# Altium schematic symbol library SMA HF Connectors.SchLib: 2 symbols
Pins are listed as number, name and electrical type; pins without a type are passive.

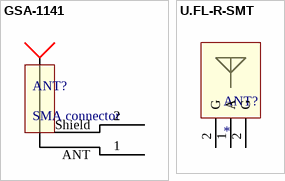
[diagram p0: symbols GSA-1141 to U.FL-R-SMT]

## GSA-1141
designator ANT?, comment SMA connector
SMA HF connector RIGHT ANGLE
footprint GSA-1141 (SMA Female angle connector)
pins: 1 ANT, 2 Shield

## U.FL-R-SMT
designator ANT?
footprint U.FL-R-SMT
pins: 1 A, 2 G, 2 G